# Altium schematic symbol library Scope_evtA.SCHLIB: 4 symbols
Pins are listed as number, name and electrical type; pins without a type are passive.

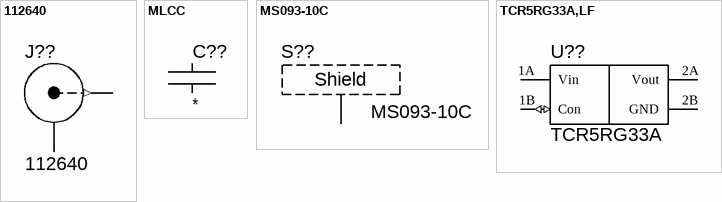
[diagram p0: symbols 112640 to TCR5RG33A,LF]

## 112640
designator J??
RF Connectors / Coaxial Connectors BNC PCB END LAUNCH 50 OHM RND BODY; Manufacturer: Amphenol; Value: 50 Ohms; ComponentLink1Description: Datasheet; ComponentLink1URL: https://eu.mouser.com/datasheet/2/18/1/amph_s_a0003617014_1-2261107.pdf; ComponentLink2Description: Link; ComponentLink2URL: https://eu.mouser.com/ProductDetail/Amphenol-RF/112640?qs=g6wJ%252BjiQWOckvE%2FP9L4wAw%3D%3D; P/N: 112640; Case: BNC; Component Type: Jack (Socket)
footprint 112640
pins: 1 In (out), 2 Shield (power)

## MLCC
designator C??
Cercap smd; P/N: *; Component Type: *; Manufacturer: *; Case: *; ComponentLink1Description: Link; ComponentLink1URL: *; ComponentLink2Description: Datasheet; ComponentLink2URL: *; Value: *
footprint C0603 (*)
footprint C0402 (Chip Capacitor, Body 1.0x0.5mm, IPC High Density)
pins: 1, 2

## MS093-10C
designator S??
EMI Gaskets, Sheets, Absorbers & Shielding 9.7 x 9.7 x 3mm Two-piece Drawn-Seamless RF Shield/EMI Shield COVER (CRS); Manufacturer: Masach Tech; ComponentLink1Description: Datasheet; ComponentLink1URL: https://api.masach.com/media/catalog/product/file/MS093-10.pdf; ComponentLink2Description: Link; ComponentLink2URL: https://eu.mouser.com/ProductDetail/Masach/MS093-10C?qs=CT2LuZh%2F7EP1flleX1ZknA%3D%3D; Value: *; P/N: MS093-10C; Case: 9.7 x 9.7 x 3; Component Type: Shields
footprint MS093-10C
pins: 1
text: Shield

## TCR5RG33A,LF
designator U??, comment TCR5RG33A
LDO Voltage Regulators LDO Reg, Iout: 500mA Vout: 3.3V Auto-Disch Low noise ultra high PSRR; Manufacturer: Toshiba; Value: 3V3; ComponentLink1Description: Datasheet; ComponentLink1URL: https://eu.mouser.com/datasheet/2/408/TCR5RG33A_datasheet_en_20230608-2509827.pdf; ComponentLink2Description: Link; ComponentLink2URL: https://eu.mouser.com/ProductDetail/Toshiba/TCR5RG33ALF?qs=eP2BKZSCXI5vOuyLbJVhkQ%3D%3D; P/N: TCR5RG33A; Case: WCSP4F-4; Component Type: LDO Voltage Regulators
footprint WLCSP4
pins: 1A Vin (power), 1B Con (io), 2A Vout (power), 2B GND (power)